# EAGLE library part TRINKETPRO (library GradeFreeEngineer)
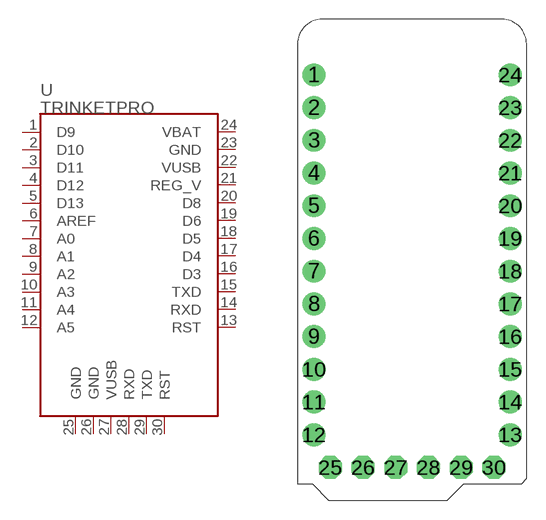
[diagram p2: symbol with the pads of TRINKETPRO; footprint TRINKETPRO]

Designator prefix U

## TRINKETPRO  [TRINKETPRO]
1  D9
2  D10
3  D11
4  D12
5  D13
6  AREF
7  A0
8  A1
9  A2
10  A3
11  A4
12  A5
13  RST
14  RXD
15  TXD
16  D3
17  D4
18  D5
19  D6
20  D8
21  REG_V
22  VUSB
23  GND
24  VBAT
25  GND
26  GND
27  VUSB
28  RXD
29  TXD
30  RST

## Footprint TRINKETPRO (pad centres in mm)
drill 1.016 pad 1.778: 1 -7.62,13.97; 2 -7.62,11.43; 3 -7.62,8.89; 4 -7.62,6.35; 5 -7.62,3.81; 6 -7.62,1.27; 7 -7.62,-1.27; 8 -7.62,-3.81; 9 -7.62,-6.35; 10 -7.62,-8.89; 11 -7.62,-11.43; 12 -7.62,-13.97; 13 7.62,-13.97; 14 7.62,-11.43; 15 7.62,-8.89; 16 7.62,-6.35; 17 7.62,-3.81; 18 7.62,-1.27; 19 7.62,1.27; 20 7.62,3.81; 21 7.62,6.35; 22 7.62,8.89; 23 7.62,11.43; 24 7.62,13.97
drill 1.016 pad 1.778 octagon: 25 -6.35,-16.51; 26 -3.81,-16.51; 27 -1.27,-16.51; 28 1.27,-16.51; 29 3.81,-16.51; 30 6.35,-16.51